# Altium footprint library ERA-6AEB105V.PcbLib: 3 footprints
Each footprint in its own frame and in the unit in brackets; x right, y up, seen from the top. Pads: shape width x height; smd on the part's side, far side on the other; paste and mask are expansions set on the pad; w line width, h text height; cw(c..) or ccw(c..) is an arc to the next point about the centre after c.
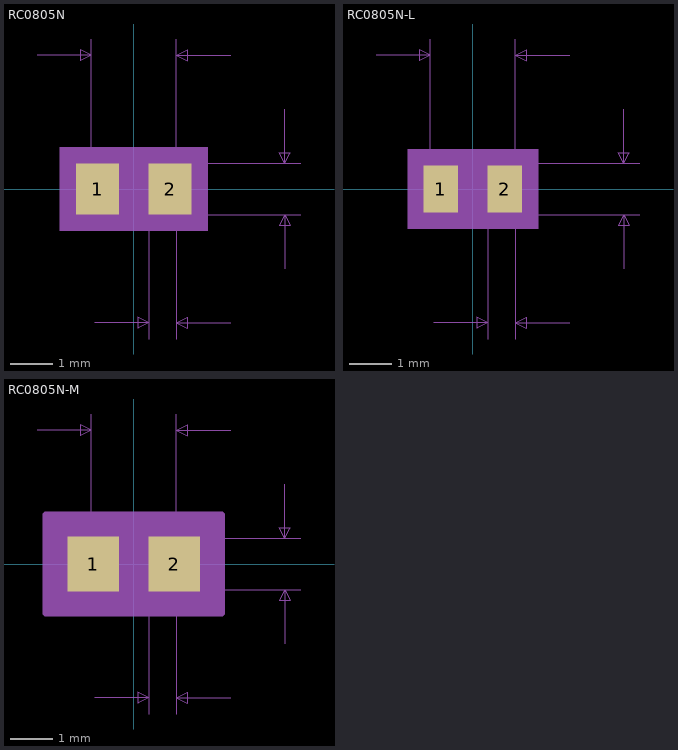
[diagram p0: the footprints below, top view; thin cyan lines are the x and y axes]

## RC0805N [mm]
pads (2):
  rect 1.006x1.2 smd: 1(-0.853,0) 2(0.853,0)
Mechanical 5:
  region: 1.737,-0.981 -1.737,-0.981 -1.737,0.981 1.737,0.981
Mechanical 7:
  lines w0.025: -2.27,3.14 -1,3.14 ; -1,0 -1,3.521 ; -0.92,-3.14 0.35,-3.14 ; 0,-0.6 3.921,-0.6 ; 0,0.6 3.921,0.6 ; 0.35,-3.521 0.35,0 ; 1,-3.521 1,0 1,3.521 ; 2.27,-3.14 1,-3.14 ; 2.27,3.14 1,3.14 ; 3.54,-1.87 3.54,-0.6 ; 3.54,1.87 3.54,0.6 ; -1,3.14 -1.254,3.267 -1.254,3.013 -1,3.14 ; 0.35,-3.14 0.096,-3.013 0.096,-3.267 0.35,-3.14 ; 1,-3.14 1.254,-3.013 1.254,-3.267 1,-3.14 ; 1,3.14 1.254,3.267 1.254,3.013 1,3.14 ; 3.54,-0.6 3.413,-0.854 3.667,-0.854 3.54,-0.6 ; 3.54,0.6 3.413,0.854 3.667,0.854 3.54,0.6
  text "Default Padstyle: RX39p59Y47p24D0T" at -10.795,-7.458 h1.27
  text "Alternate 1 Padstyle: OX60Y90D30P" at -10.477,-9.998 h1.27
  text "Alternate 2 Padstyle: OX90Y60D30P" at -10.477,-12.538 h1.27
  text "0.047in/1.2mm" at 4.048,-0.318 h0.64
  text "0.079in/2mm" at -1.746,3.648 h0.64
  text "0.026in/0.65mm" at -1.548,-4.283 h0.64
Mechanical 13:
  lines w0.025: -1,-0.6 -1,0.6 ; -1,-0.6 -0.35,-0.6 -0.35,0.6 -1,0.6 ; -1,-0.6 1,-0.6 ; -1,-0.6 -1,0.6 ; -1,0.6 1,0.6 ; 1,-0.6 0.35,-0.6 0.35,0.6 1,0.6 ; 1,-0.6 1,0.6 ; 1,-0.6 1,0.6
Mechanical 15:
  region: 1.61,-0.854 -1.61,-0.854 -1.61,0.854 1.61,0.854
  lines w0.152: -1.61,-0.854 -1.61,0.854 1.61,0.854 1.61,-0.854 -1.61,-0.854
3D body: height 0.25, standoff 0, extent 0,0 0.254,0.254

## RC0805N-L [mm]
pads (2):
  rect 0.802x1.098 smd paste+0 mask+0: 1(-0.751,0) 2(0.751,0)
Mechanical 5:
  region: 1.533,-0.93 -1.533,-0.93 -1.533,0.93 1.533,0.93
Mechanical 7:
  lines w0.025: -2.27,3.14 -1,3.14 ; -1,0 -1,3.521 ; -0.92,-3.14 0.35,-3.14 ; 0,-0.6 3.921,-0.6 ; 0,0.6 3.921,0.6 ; 0.35,-3.521 0.35,0 ; 1,-3.521 1,0 1,3.521 ; 2.27,-3.14 1,-3.14 ; 2.27,3.14 1,3.14 ; 3.54,-1.87 3.54,-0.6 ; 3.54,1.87 3.54,0.6 ; -1,3.14 -1.254,3.267 -1.254,3.013 -1,3.14 ; 0.35,-3.14 0.096,-3.013 0.096,-3.267 0.35,-3.14 ; 1,-3.14 1.254,-3.013 1.254,-3.267 1,-3.14 ; 1,3.14 1.254,3.267 1.254,3.013 1,3.14 ; 3.54,-0.6 3.413,-0.854 3.667,-0.854 3.54,-0.6 ; 3.54,0.6 3.413,0.854 3.667,0.854 3.54,0.6
  text "Default Padstyle: RX31p59Y43p24D0T" at -10.795,-7.407 h1.27
  text "Alternate 1 Padstyle: OX60Y90D30P" at -10.477,-9.947 h1.27
  text "Alternate 2 Padstyle: OX90Y60D30P" at -10.477,-12.487 h1.27
  text "0.047in/1.2mm" at 4.048,-0.318 h0.64
  text "0.079in/2mm" at -1.746,3.648 h0.64
  text "0.026in/0.65mm" at -1.548,-4.283 h0.64
Mechanical 13:
  lines w0.025: -1,-0.6 -1,0.6 ; -1,-0.6 -0.35,-0.6 -0.35,0.6 -1,0.6 ; -1,-0.6 1,-0.6 ; -1,-0.6 -1,0.6 ; -1,0.6 1,0.6 ; 1,-0.6 0.35,-0.6 0.35,0.6 1,0.6 ; 1,-0.6 1,0.6 ; 1,-0.6 1,0.6
Mechanical 15:
  region: 1.254,-0.651 -1.254,-0.651 -1.254,0.651 1.254,0.651
  lines w0.152: -1.254,-0.651 -1.254,0.651 1.254,0.651 1.254,-0.651 -1.254,-0.651
3D body: height 0.25, standoff 0, extent 0,0 0.254,0.254

## RC0805N-M [mm]
pads (2):
  rect 1.209x1.302 smd paste+0 mask+0: 1(-0.954,0) 2(0.954,0)
Mechanical 5:
  region: 1.94,-1.032 -1.94,-1.032 -1.94,1.032 1.94,1.032
Mechanical 7:
  lines w0.025: -2.27,3.14 -1,3.14 ; -1,0 -1,3.521 ; -0.92,-3.14 0.35,-3.14 ; 0,-0.6 3.921,-0.6 ; 0,0.6 3.921,0.6 ; 0.35,-3.521 0.35,0 ; 1,-3.521 1,0 1,3.521 ; 2.27,-3.14 1,-3.14 ; 2.27,3.14 1,3.14 ; 3.54,-1.87 3.54,-0.6 ; 3.54,1.87 3.54,0.6 ; -1,3.14 -1.254,3.267 -1.254,3.013 -1,3.14 ; 0.35,-3.14 0.096,-3.013 0.096,-3.267 0.35,-3.14 ; 1,-3.14 1.254,-3.013 1.254,-3.267 1,-3.14 ; 1,3.14 1.254,3.267 1.254,3.013 1,3.14 ; 3.54,-0.6 3.413,-0.854 3.667,-0.854 3.54,-0.6 ; 3.54,0.6 3.413,0.854 3.667,0.854 3.54,0.6
  text "Default Padstyle: RX47p59Y51p24D0T" at -10.795,-7.509 h1.27
  text "Alternate 1 Padstyle: OX60Y90D30P" at -10.477,-10.049 h1.27
  text "Alternate 2 Padstyle: OX90Y60D30P" at -10.477,-12.589 h1.27
  text "0.047in/1.2mm" at 4.048,-0.318 h0.64
  text "0.079in/2mm" at -1.746,3.648 h0.64
  text "0.026in/0.65mm" at -1.548,-4.283 h0.64
Mechanical 13:
  lines w0.025: -1,-0.6 -1,0.6 ; -1,-0.6 -0.35,-0.6 -0.35,0.6 -1,0.6 ; -1,-0.6 1,-0.6 ; -1,-0.6 -1,0.6 ; -1,0.6 1,0.6 ; 1,-0.6 0.35,-0.6 0.35,0.6 1,0.6 ; 1,-0.6 1,0.6 ; 1,-0.6 1,0.6
Mechanical 15:
  region: 2.067,-1.159 -2.067,-1.159 -2.067,1.159 2.067,1.159
  lines w0.152: -2.067,-1.159 -2.067,1.159 2.067,1.159 2.067,-1.159 -2.067,-1.159
3D body: height 0.25, standoff 0, extent 0,0 0.254,0.254